# Altium schematic symbol library Personal Library.SchLib: 14 symbols
Pins are listed as number, name and electrical type; pins without a type are passive.

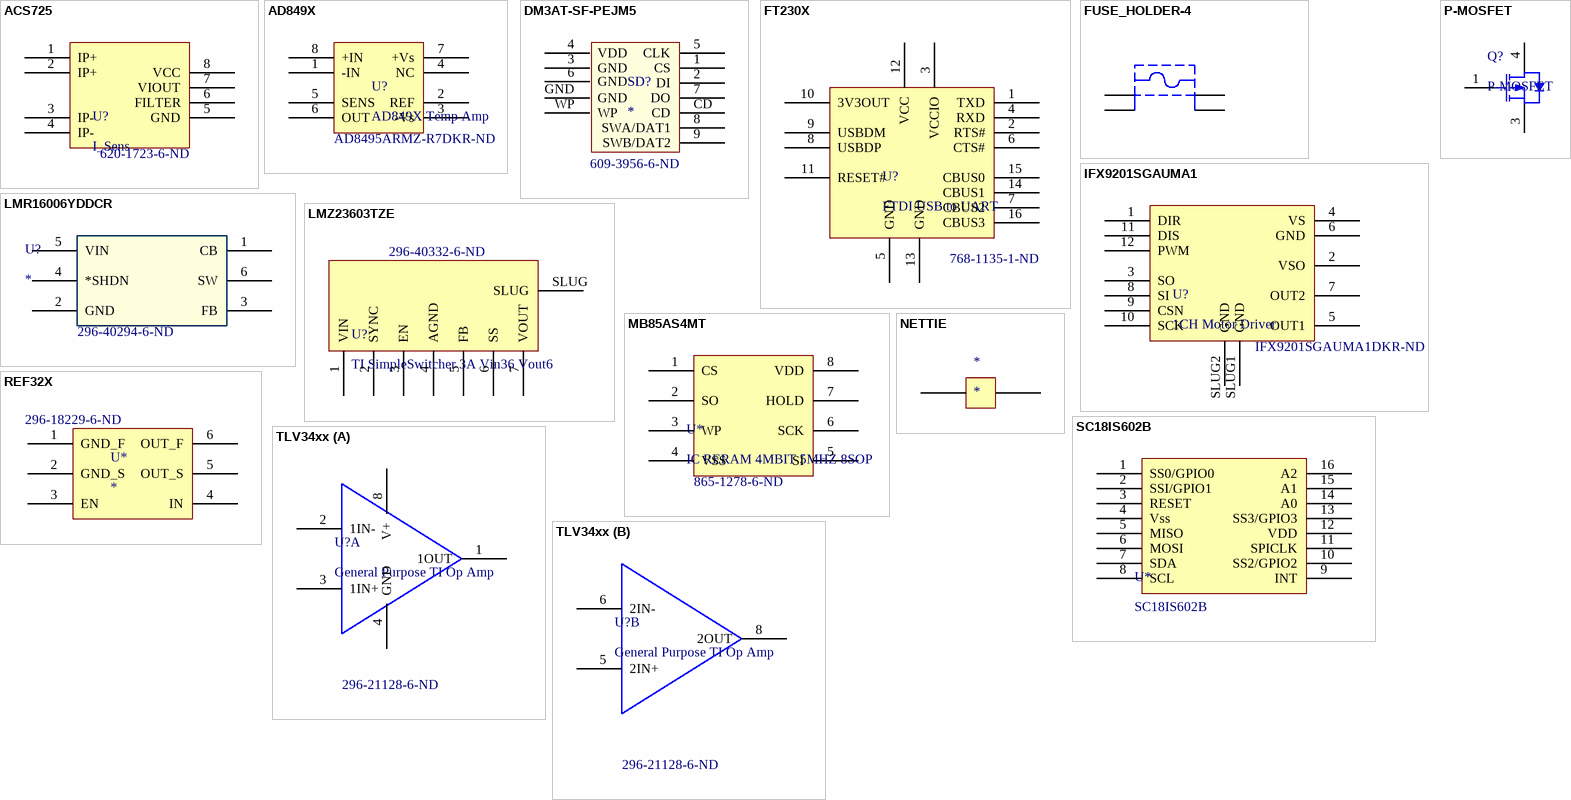
[diagram p0: symbols ACS725 to TLV34xx]

## ACS725
designator U?, comment I_Sens  Supplier Part Number 1: 620-1723-6-ND
Allegro ACS725-Series Current Sensors; Supplier 1: Digi-Key; Replacable: *
pins: 1 IP+, 2 IP+, 3 IP-, 4 IP-, 5 GND, 6 FILTER, 7 VIOUT, 8 VCC

## AD849X
designator U?, comment AD849X Temp Amp  Supplier Part Number 1: AD8495ARMZ-R7DKR-ND
AD849X Analog Thermocouple Sensor; Supplier 1: Digi-Key
pins: 1 -IN, 2 REF, 3 -Vs, 4 NC, 5 SENS, 6 OUT, 7 +Vs, 8 +IN

## DM3AT-SF-PEJM5
designator SD?  Supplier Part Number 1: 609-3956-6-ND
CONN SM MicroSD; ComponentLink1Description: Digikey; ComponentLink1URL: https://www.digikey.com/product-detail/en/amphenol-fci/10067847-001RLF/609-3956-2-ND/2283478; Supplier 1: Digi-Key
footprint SD Card Slot (SD Card Socket)
pins: 1 CS, 2 DI, 3 GND, 4 VDD, 5 CLK, 6 GND, 7 DO, 8 SWA/DAT1, 9 SWB/DAT2, CD, GND, WP

## FT230X
designator U?, comment FTDI USB to UART  Supplier Part Number 1: 768-1135-1-ND
FT230X USB TO BASIC UART IC; Supplier 1: Digi-Key; ComponentLink1Description: DigiKey; ComponentLink1URL: https://www.digikey.com/product-detail/en/ftdi-future-technology-devices-international-ltd/FT230XS-R/768-1135-1-ND/3029155
footprint DBQ016 (SSOP; 16 Leads; Body Width 3.9 mm; Pitch 0.635 mm)
pins: 1 TXD, 2 RTS#, 3 VCCIO, 4 RXD, 5 GND, 6 CTS#, 7 CBUS2, 8 USBDP, 9 USBDM, 10 3V3OUT, 11 RESET#, 12 VCC, 13 GND, 14 CBUS1, 15 CBUS0, 16 CBUS3

## FUSE_HOLDER-4
designator XF?
Automotive 30A Fuseholder PTH; Supplier: DigiKey; Supplier PN: 3557-2K-ND
footprint FuseHolder_AutomotiveBlade (Fuse Holder, PCB Mount, Thru-Hole, Body 19.8x6.8mm, Height 7.4mm)
pins: 1, 2, 3, 4

## IFX9201SGAUMA1
designator U?, comment 1CH Motor Driver  Supplier Part Number 1: IFX9201SGAUMA1DKR-ND
8A 1CH Motor Driver; Supplier 1: Digi-Key
pins: 1 DIR, 2 VSO, 3 SO, 4 VS, 5 OUT1, 6 GND, 7 OUT2, 8 SI, 9 CSN, 10 SCK, 11 DIS, 12 PWM, SLUG1 GND, SLUG2 GND

## LMR16006YDDCR
designator U?  Supplier Part Number 1: 296-40294-6-ND
Buck Switching Regulator IC Positive Adjustable 0.765V 1 Output 600mA SOT-23-6 Thin, TSOT-23-6; Manufacturer_Part_Number: LMR16006YDDCR; Vendor: Texas Instruments; Built_By: EMA_UL_Team; C: Copyright (C) 2016 Accelerated Designs. All rights reserved; RefDes: RefDes; Type: DEV; Value: Value; ComponentLink1Description: DigiKey; ComponentLink1URL: https://www.digikey.com/product-detail/en/texas-instruments/LMR16006YDDCR/296-40294-1-ND/5178171; Supplier: DigiKey; Supplier PN: 296-40294-1-ND; Supplier 1: Digi-Key
footprint DDC6 (Footprint not found)
footprint TSOT-23-Thin
pins: 1 CB, 2 GND (power), 3 FB, 4 *SHDN, 5 VIN, 6 SW

## LMZ23603TZE
designator U?, comment TI SimpleSwitcher 3A Vin36 Vout6  Supplier Part Number 1: 296-40332-6-ND
TI Simple Switcher 3A / 6 to 36V IN / 0.8 to 6V OUT; Supplier 1: Digi-Key
pins: 1 VIN, 2 SYNC, 3 EN, 4 AGND, 5 FB, 6 SS, 7 VOUT, SLUG

## MB85AS4MT
designator U*, comment IC RERAM 4MBIT 5MHZ 8SOP  Supplier Part Number 1: 865-1278-6-ND
4MB SPI RAM; Supplier 1: Digi-Key
footprint D008_L (8-Pin Small Outline Integrated Circuit 1.27 mm Pitch, IPC High Density)
pins: 1 CS, 2 SO, 3 WP, 4 VSS, 5 SI, 6 SCK, 7 HOLD, 8 VDD

## NETTIE
designator *
footprint NETTIE (NETTIEBITCH)
pins: 1, 2

## P-MOSFET
designator Q?
Supplier: DigiKey; Supplier PN: *
pins: 1 G, 3 S, 4 D

## REF32X
designator U*  Supplier Part Number 1: 296-18229-6-ND
SERIES VOLTAGE REFERENCE; MFN PN: REF32**; DigiKey: ND-*; Supplier 1: Digi-Key
pins: 1 GND_F, 2 GND_S, 3 EN, 4 IN, 5 OUT_S, 6 OUT_F

## SC18IS602B
designator U*
NxP I2C-bus to SPI bridge; ComponentLink1Description: DigiKey; ComponentLink1URL: https://www.digikey.com/products/en?keywords=568-13691-1-ND; Supplier: DigiKey; Supplier PN: 568-13691-1-ND
footprint XPT-TSOP16_N - Cloned (TSOP, 16-Leads, Body 5x4.4mm, Pitch 0.65mm, IPC Medium Density)
pins: 1 SS0/GPIO0, 2 SSI/GPIO1, 3 RESET, 4 Vss, 5 MISO, 6 MOSI, 7 SDA, 8 SCL, 9 INT, 10 SS2/GPIO2, 11 SPICLK, 12 VDD, 13 SS3/GPIO3, 14 A0, 15 A1, 16 A2

## TLV34xx
designator U?, comment General Purpose TI Op Amp  Supplier Part Number 1: 296-21128-6-ND
TLV34xx Low-Voltage Rail-to-Rail Output CMOS Operational Amplifiers With Shutdown; Supplier 1: Digi-Key
part A pins: 1 1OUT, 2 1IN-, 3 1IN+, 4 GND, 8 V+
part B pins: 5 2IN+, 6 2IN-, 8 2OUT